# Altium footprint library SM4007.PcbLib: 1 footprints
Each footprint in its own frame and in the unit in brackets; x right, y up, seen from the top. Pads: shape width x height; smd on the part's side, far side on the other; paste and mask are expansions set on the pad; w line width, h text height; cw(c..) or ccw(c..) is an arc to the next point about the centre after c.
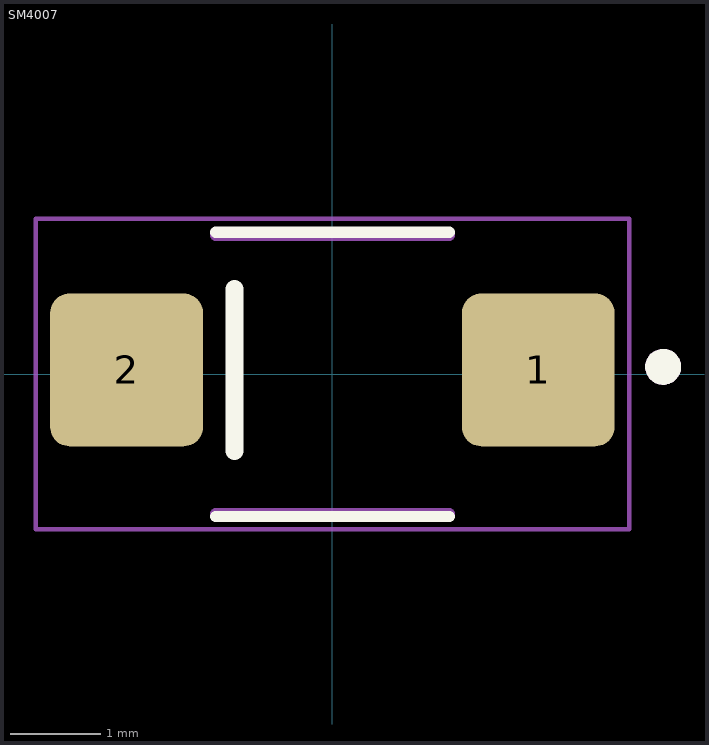
[diagram p0: the footprint, top view; thin cyan lines are the x and y axes]

## SM4007 [mm]
pads (2):
  rrect25% 1.7x1.7 smd: 1(2.29,0.045) 2(-2.29,0.045)
Top Overlay:
  circle w0.2: c3.68,0.08 r0.1
  lines w0.127: -1.3,-1.585 1.3,-1.585 ; -1.3,1.575 1.3,1.575
  lines w0.2: -1.09,-0.855 -1.09,0.945
Mechanical 13:
  circle w0.2: c3.68,0.08 r0.1
  lines w0.127: -1.3,-1.555 1.3,-1.555 ; -1.3,1.545 1.3,1.545
Mechanical 15:
  lines w0.05: -3.3,-1.725 3.3,-1.725 3.3,1.725 -3.3,1.725 -3.3,-1.725
3D body "User Library-Diode SMD 1N4007.STEP": height 2.4, standoff -0.03, extent -2.65,-1.555 2.65,1.555